# EAGLE library part TLC555-D (library BW-Active)
555 timer
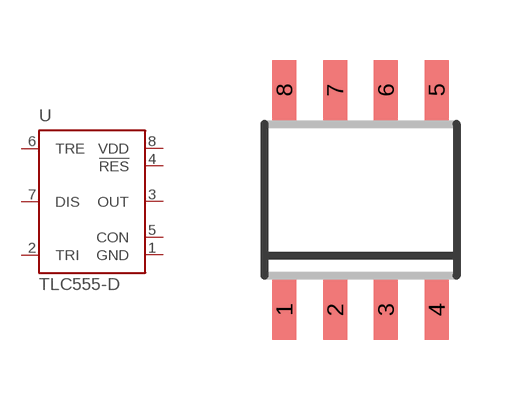
[diagram p16: symbol with the pads of SOIC8; footprint SOIC8]

Designator prefix U

## TLC555-D  [SOIC8]
1  GND  pwr
2  TRI  in
3  OUT  out
4  !RES  in
5  CON  in
6  TRE  in
7  DIS  out
8  VDD  pwr

## Footprint SOIC8 (pad centres in mm)
SOIC-8 CASE 751-07 Source: http://www.onsemi.com/pub/Collateral/MC34164-D.PDF D (R-PDSO-G8)PLATIC SMALL-OUTLINE PACKAGE Source: http://focus.ti.com/lit/ds/symlink/tlc27l2.pdf
smd 0.6 x 1.5: 1 -1.905,-2.75; 2 -0.635,-2.75; 3 0.635,-2.75; 4 1.905,-2.75; 5 1.905,2.75; 6 0.635,2.75; 7 -0.635,2.75; 8 -1.905,2.75